# Altium footprint library BQFN-47-MODULE.PcbLib: 1 footprints
Each footprint in its own frame and in the unit in brackets; x right, y up, seen from the top. Pads: shape width x height; smd on the part's side, far side on the other; paste and mask are expansions set on the pad; w line width, h text height; cw(c..) or ccw(c..) is an arc to the next point about the centre after c.
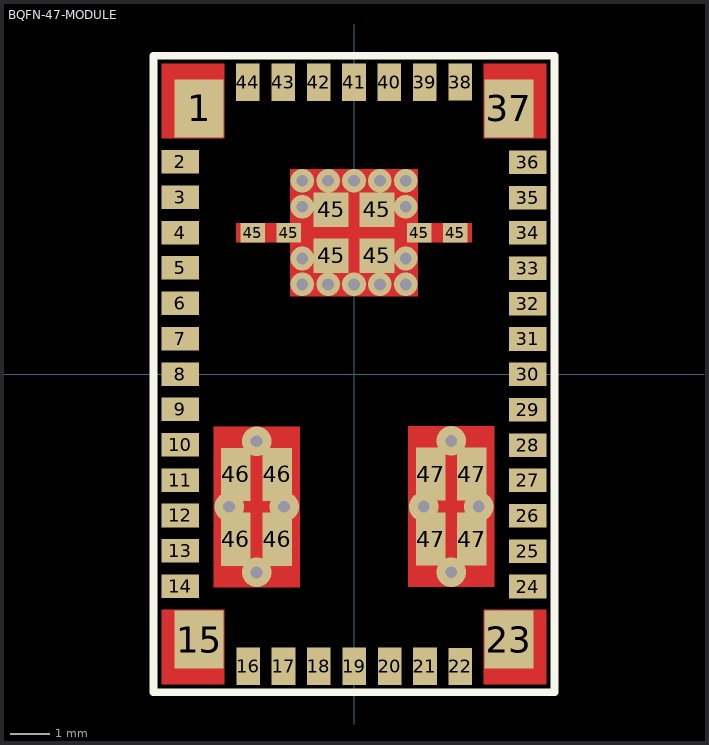
[diagram p0: the footprint, top view; thin cyan lines are the x and y axes]

## BQFN-47-MODULE [mm]
height 0.9
pads (60):
  rect 1.24x1.47 smd mask+0: 1(-3.945,6.76) 15(-3.945,-6.76) 23(3.945,-6.76) 37(3.945,6.76)
  rect 0.95x0.6 smd mask+0.05: 2(-4.425,5.4) 3(-4.425,4.5) 4(-4.425,3.6) 5(-4.425,2.699) 6(-4.425,1.799) 7(-4.425,0.899) 8(-4.425,-0.001) 9(-4.425,-0.901) 10(-4.425,-1.802) 11(-4.425,-2.702) 12(-4.425,-3.602) 13(-4.425,-4.502) 14(-4.425,-5.402) 24(4.424,-5.41) 25(4.424,-4.51) 26(4.424,-3.61) 27(4.424,-2.71) 28(4.424,-1.81) 29(4.424,-0.909) 30(4.424,-0.009) 31(4.424,0.891) 32(4.424,1.791) 33(4.424,2.691) 34(4.424,3.592) 35(4.424,4.492) 36(4.424,5.392)
  rect 0.6x0.95 smd mask+0.05: 16(-2.694,-7.437) 17(-1.794,-7.437) 18(-0.894,-7.437) 19(0.006,-7.437) 20(0.907,-7.437) 21(1.807,-7.437) 22(2.707,-7.444) 38(2.701,7.432) 39(1.801,7.425) 40(0.901,7.425) 41(0.001,7.425) 42(-0.9,7.425) 43(-1.8,7.425) 44(-2.7,7.425)
  rect 0.62x0.5 smd mask+0: 45(-2.58,3.6) 45(-1.66,3.6) 45(1.66,3.6) 45(2.58,3.6)
  rect 0.88x0.88 smd mask+0: 45(-0.585,3.015) 45(-0.585,4.185) 45(0.585,3.015) 45(0.585,4.185)
  rect 0.75x1.35 smd mask+0: 46(-3.005,-4.207) 46(-3.005,-2.556) 46(-1.955,-4.207) 46(-1.955,-2.556) 47(1.95,-4.2) 47(1.95,-2.55) 47(3,-4.2) 47(3,-2.55)
via 2.475,-1.705 diameter 0.75 hole 0.3
via -2.48,-5.052 diameter 0.75 hole 0.3
via -2.48,-1.712 diameter 0.75 hole 0.3
via -3.18,-3.382 diameter 0.75 hole 0.3
via -1.78,-3.382 diameter 0.75 hole 0.3
via 1.32,4.26 diameter 0.6 hole 0.3
via 1.32,4.92 diameter 0.6 hole 0.3
via 0.66,4.92 diameter 0.6 hole 0.3
via 0,4.92 diameter 0.6 hole 0.3
via -0.66,4.92 diameter 0.6 hole 0.3
via -1.32,4.92 diameter 0.6 hole 0.3
via -1.32,4.26 diameter 0.6 hole 0.3
via 1.32,2.94 diameter 0.6 hole 0.3
via 1.32,2.28 diameter 0.6 hole 0.3
via 0.66,2.28 diameter 0.6 hole 0.3
via 0,2.28 diameter 0.6 hole 0.3
via -0.66,2.28 diameter 0.6 hole 0.3
via -1.32,2.28 diameter 0.6 hole 0.3
via -1.32,2.94 diameter 0.6 hole 0.3
via 2.475,-5.045 diameter 0.75 hole 0.3
via 1.775,-3.375 diameter 0.75 hole 0.3
via 3.175,-3.375 diameter 0.75 hole 0.3
Top Layer:
  rectangle: -4.9,-7.9 -3.3,-6
  region: 4.9,-6 3.3,-6 3.3,-7.9 4.9,-7.9
  region: 4.9,7.9 3.3,7.9 3.3,6 4.9,6
  rectangle: -1.625,1.975 1.625,5.225
  region: -1.025,3.85 -3,3.85 -3,3.35 -1.025,3.35
  rectangle: 1.025,3.35 3,3.85
  region: -1.38,-5.432 -1.38,-1.332 -3.58,-1.332 -3.58,-5.432
  region: 3.575,-5.425 3.575,-1.325 1.375,-1.325 1.375,-5.425
  rectangle: -4.9,6 -3.3,7.9
Top Overlay:
  lines w0.2: -5.1,-8.1 -5.1,8.1 5.1,8.1 5.1,-8.1 -5.1,-8.1
Top Solder:
  rectangle: -4.95,-7.95 -3.25,-5.95
  region: 4.95,-5.95 3.25,-5.95 3.25,-7.95 4.95,-7.95
  region: 4.95,7.95 3.25,7.95 3.25,5.95 4.95,5.95
  region: 3.05,3.9 1.025,3.9 1.025,3.3 3.05,3.3
  rectangle: -3.05,3.3 -1.025,3.9
  rectangle: -1.075,2.525 1.075,4.675
  rectangle: -4.95,5.95 -3.25,7.95
Top Assembly:
  lines w0.1: -5.1,-8.1 -5.1,8.1 5.1,8.1 5.1,-8.1 -5.1,-8.1
  text "'.Designator'" at -0.95,-0.35 h0.7